# Altium integrated library 6pins_2.IntLib: 1 symbol
Pins are listed as number, name and electrical type; pins without a type are passive.

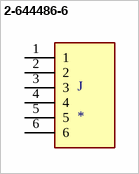
[diagram p0: symbol 2-644486-6]

## 2-644486-6
designator J
06P MTA100 SHRDED HDR ASSY SN; MF: TE Connectivity; MP: 2-644486-6; DigiKey-Purchase-URL: https://snapeda.com/shop?store=DigiKey&id=2876038; Mouser-Purchase-URL: https://snapeda.com/shop?store=Mouser&id=2876038; SnapEDA_Link: https://www.snapeda.com/parts/2-644486-6/TE%20Connectivity%20AMP%20Connectors/view-part/2876038/?ref=snap; Digi-Key_Part_Number: A30896-ND; Value: *; Package: None
footprint TE_2-644486-6
pins: 1, 2, 3, 4, 5, 6